# EAGLE library part TPS27081ADDCR (library TPS27081ADDCR)
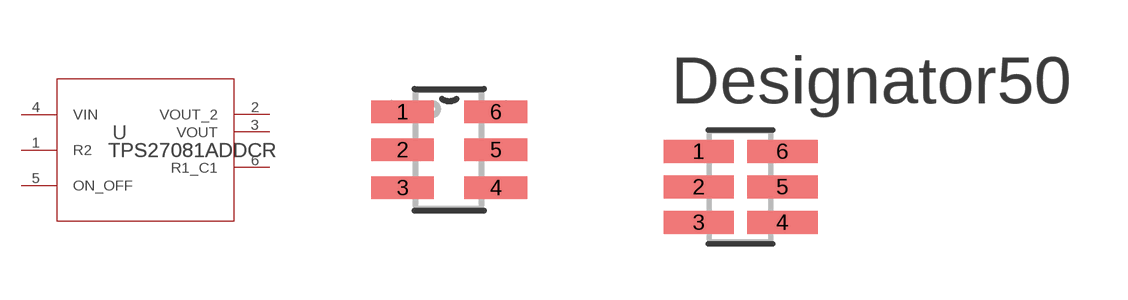
[diagram p0: symbol with the pads of DDC0006A_N; footprints DDC0006A_N, DDC0006A_M]

Designator prefix U

## TPS27081ADDCR (APPLICATION_BUILDNUMBER: *; COMPTYPE: IC; MANUFACTURER: Texas Instruments; MOUNTTYPE: SMT; PACKAGEREFERENCE: DDC0006A; PARTNUMBER: TPS27081ADDCR; PIN_COUNT: 6; REFDES: RefDes; ROHS: Y; TYPE: TYPE; VALUE: Value)  [DDC0006A_N]
1  R2  in
2  VOUT_2  pwr
3  VOUT  pwr
4  VIN  pwr
5  ON_OFF  in
6  R1_C1  in

## TPS27081ADDCRDDC0006A_M (APPLICATION_BUILDNUMBER: *; COMPTYPE: IC; MANUFACTURER: Texas Instruments; MOUNTTYPE: SMT; PACKAGEREFERENCE: DDC0006A; PARTNUMBER: TPS27081ADDCR; PIN_COUNT: 6; REFDES: RefDes; ROHS: Y; TYPE: TYPE; VALUE: Value)  [DDC0006A_M]
Pads as for DDC0006A_N

## TPS27081ADDCRDDC0006A_L (APPLICATION_BUILDNUMBER: *; COMPTYPE: IC; MANUFACTURER: Texas Instruments; MOUNTTYPE: SMT; PACKAGEREFERENCE: DDC0006A; PARTNUMBER: TPS27081ADDCR; PIN_COUNT: 6; REFDES: RefDes; ROHS: Y; TYPE: TYPE; VALUE: Value)  [DDC0006A_L]
Pads as for DDC0006A_N

## Footprint DDC0006A_N (pad centres in mm)
smd 1.575 x 0.559: 1 -1.168,0.95; 2 -1.168,0; 3 -1.168,-0.95; 4 1.168,-0.95; 5 1.168,0; 6 1.168,0.95

## Footprint DDC0006A_M (pad centres in mm)
smd 1.88 x 0.61: 1 -1.118,0.95; 2 -1.118,0; 3 -1.118,-0.95; 4 1.118,-0.95; 5 1.118,0; 6 1.118,0.95

## Footprint DDC0006A_L (pad centres in mm)
smd 1.27 x 0.508: 1 -1.219,0.95; 2 -1.219,0; 3 -1.219,-0.95; 4 1.219,-0.95; 5 1.219,0; 6 1.219,0.95